# Altium footprint library 28Pins_Project_V1I1.PcbLib: 27 footprints (part 1 of 2)
Each footprint in its own frame and in the unit in brackets; x right, y up, seen from the top. Pads: shape width x height; smd on the part's side, far side on the other; paste and mask are expansions set on the pad; w line width, h text height; cw(c..) or ccw(c..) is an arc to the next point about the centre after c.
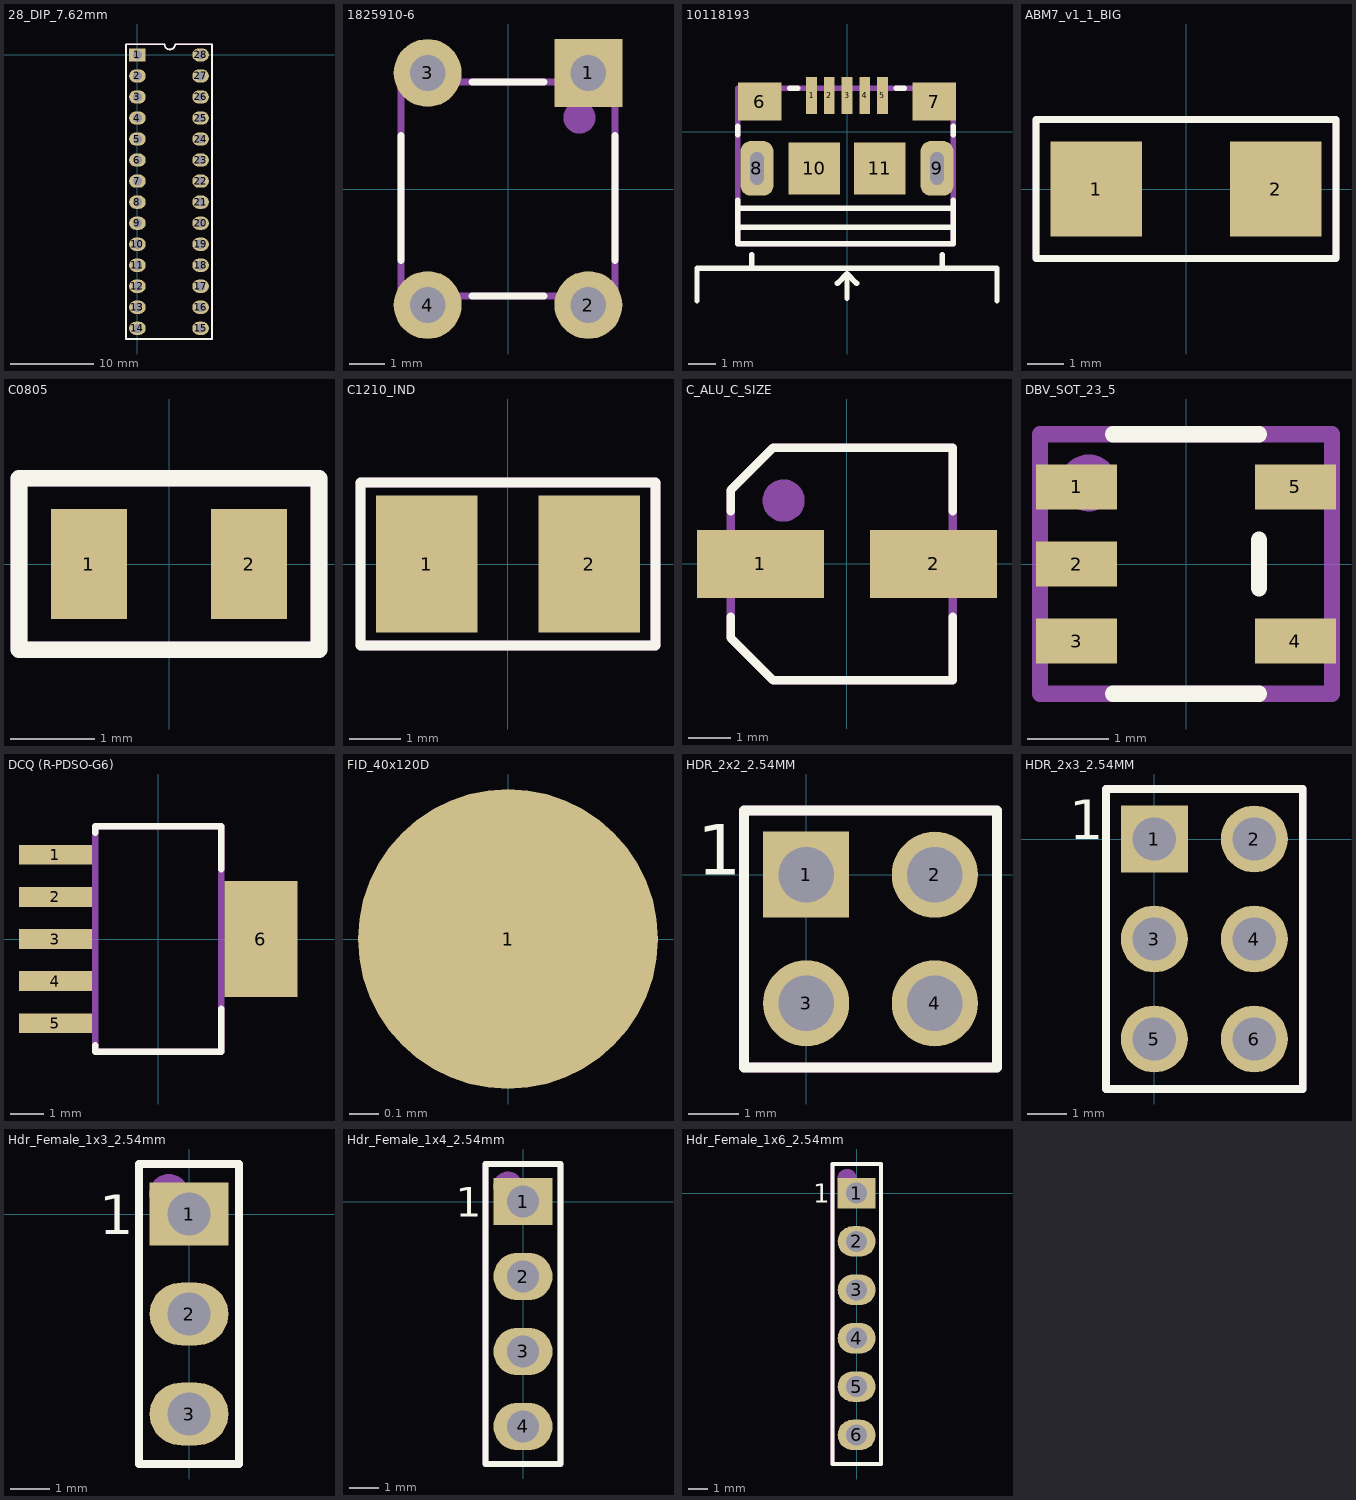
[diagram p0: the footprints below, top view; thin cyan lines are the x and y axes]

## 28_DIP_7.62mm [mm]
pads (28):
  rect 2x1.6 hole 1.1: 1(0,0)
  oval 2x1.6 hole 1.1: 2(0,-2.54) 3(0,-5.08) 4(0,-7.62) 5(0,-10.16) 6(0,-12.7) 7(0,-15.24) 8(0,-17.78) 9(0,-20.32) 10(0,-22.86) 11(0,-25.4) 12(0,-27.94) 13(0,-30.48) 14(0,-33.02) 15(7.62,-33.02) 16(7.62,-30.48) 17(7.62,-27.94) 18(7.62,-25.4) 19(7.62,-22.86) 20(7.62,-20.32) 21(7.62,-17.78) 22(7.62,-15.24) 23(7.62,-12.7) 24(7.62,-10.16) 25(7.62,-7.62) 26(7.62,-5.08) 27(7.62,-2.54) 28(7.62,0)
Top Overlay:
  lines w0.2: 8.975,1.29 4.545,1.29 cw(c3.91,1.29) 3.275,1.29 -1.39,1.29 -1.39,-34.31 9.01,-34.31 9.01,1.27
Mechanical 29 (Mech29):
  circle w0.5: c0.01,-0.01 r0.25
  lines w0.2: 8.975,1.29 4.545,1.29 cw(c3.91,1.29) 3.275,1.29 -1.39,1.29 -1.39,-34.31 9.01,-34.31 9.01,1.27
  text "'.Designator'" at 5.51,-33.81 h3
3D body "User Library-28 pin dip.step": height 7.55, standoff 1.33, extent -0.127,-34.46 7.747,1.481

## 28_DIP_7.62mm_SOCKET [mm]
3D body "dil_socket.stp": height 4.2, standoff -3.17, extent -1.24,-34.26 8.86,1.24

## 1825910-6 [mm]
pads (4):
  rect 1.9x1.9 hole 1: 1(2.25,3.25)
  round 1.9 hole 1: 2(2.25,-3.25) 3(-2.25,3.25) 4(-2.25,-3.25)
Top Overlay:
  lines w0.2: -3,-2 -3,1.5 ; -1,-3 1,-3 ; -1,3 1,3 ; 3,-2 3,1.5
Mechanical 29 (Mech29):
  circle w0.5: c2,2 r0.2
  lines w0.2: -3,-3 -3,3 3,3 3,-3 -3,-3
3D body "User Library-FSM4JLH(1825910-5).step": height 5.01, standoff -3.5, extent -2.995,-3.898 2.995,3.9

## 10118193 [mm]
pads (11):
  rect 0.4x1.35 smd mask+0.05: 1(-1.3,1.338) 2(-0.65,1.338) 3(0,1.338) 4(0.65,1.338) 5(1.3,1.338)
  rect 1.6x1.4 smd: 6(-3.2,1.112) 7(3.2,1.112)
  rrect60% 1.2x2 hole 0.5 slot 1.2 at 90 deg: 8(-3.3,-1.338) 9(3.3,-1.338)
  rect 1.9x1.9 smd: 10(-1.2,-1.338) 11(1.2,-1.338)
Top Overlay:
  lines w0.2: -5.5,-6.2 -5.5,-5 5.5,-5 5.5,-6.2 ; -4,-3.5 3.9,-3.5 ; -4,-2.8 3.9,-2.8 ; -4,-2.5 -4,-4.1 3.9,-4.1 3.9,-2.5 ; -4,-0.1 -4,0.2 ; -3.5,-4.9 -3.5,-4.5 ; -2.1,1.6 -1.8,1.6 ; -0.35,-5.55 0,-5.2 ; 0,-6.1 0,-5.2 ; 0,-5 0.1,-5 ; 0.35,-5.55 0,-5.2 ; 1.8,1.6 2.1,1.6 ; 3.5,-5 3.5,-4.5 ; 3.9,-0.1 3.9,0.2
Mechanical 29 (Mech29):
  lines w0.2: -4,-4.1 -4,1.6 3.9,1.6 3.9,-4.1 -4,-4.1
  text "'.Designator'" at -2.4,-0.7 h1.5
3D body "10118193-0001lfc.stp": height 2.87, standoff -0.73, extent -3.928,-4.123 3.928,1.538

## ABM7_v1_1_BIG [mm]
pads (2):
  rect 2.5x2.6 smd: 1(-2.45,0) 2(2.45,0)
Top Overlay:
  lines w0.2: -4.1,-1.9 4.1,-1.9 4.1,1.9 -4.1,1.9 -4.1,-1.9
Mechanical 29 (Mech29):
  lines w0.2: -4.1,-1.9 -4.1,1.9 4.1,1.9 4.1,-1.9 -4.1,-1.9
  text "'.Designator'" at -1.8,-0.6 h1.52
3D body "ABM7.STEP": height 1.41, standoff 0.01, extent -2.997,-1.753 2.997,1.753

## C0805 [mm]
pads (2):
  rect 0.9x1.3 smd: 1(-0.95,0) 2(0.95,0)
Top Overlay:
  lines w0.2: -1.778,-1.016 -1.778,1.016 1.778,1.016 1.778,-1.016 -1.778,-1.016
Mechanical 29 (Mech29):
  lines w0.2: -1.778,-1.016 1.778,-1.016 1.778,1.016 -1.778,1.016 -1.778,-1.016
  text "'.Designator'" at -1.27,-0.254 h0.6
3D body "CAPC2012X145N EIA 0805.step": height 1.46, standoff 0.01, extent -1,-0.6 1,0.6

## C1210_IND [mm]
pads (2):
  rect 2x2.7 smd: 1(-1.6,0) 2(1.6,0)
Top Overlay:
  lines w0.2: -2.9,-1.6 2.9,-1.6 2.9,1.6 -2.9,1.6 -2.9,-1.6
Mechanical 29 (Mech29):
  lines w0.2: -2.9,-1.6 -2.9,1.6 2.9,1.6 2.9,-1.6 -2.9,-1.6
  text "'.Designator'" at -2.2,-0.4 h1
3D body: height 2.7, standoff -0.01, extent -1.6,-1.25 -1.3,1.25
3D body: height 2.7, standoff -0.01, extent 1.3,-1.25 1.6,1.25
3D body: height 2.7, standoff -0.01, extent -1.3,-1.25 1.3,1.25

## C_ALU_C_SIZE [mm]
pads (2):
  rect 3x1.6 smd: 1(-2.05,0) 2(2.05,0)
Top Overlay:
  lines w0.2: -2.75,-1.25 -2.75,-1.75 -1.75,-2.75 2.5,-2.75 2.5,-1.25 ; -2.75,1.25 -2.75,1.75 -1.75,2.75 2.5,2.75 2.5,1.25
Mechanical 29 (Mech29):
  circle w0.5: c-1.5,1.5 r0.25
  lines w0.2: -2.75,-1.75 -1.75,-2.75 2.5,-2.75 2.5,2.75 -1.75,2.75 -2.75,1.75 -2.75,-1.75
  text "'.Designator'" at -1.75,-1 h1.3
3D body "Capacitor size C.step": height 5.42, standoff 0.01, extent -2.95,-2.65 2.95,2.65

## DBV_SOT_23_5 [mm]
pads (5):
  rect 1x0.55 smd: 1(-1.35,0.95) 2(-1.35,0) 3(-1.35,-0.95) 4(1.35,-0.95) 5(1.35,0.95)
Top Overlay:
  lines w0.2: -0.9,-1.6 0.9,-1.6 ; -0.9,1.6 0.9,1.6 ; 0.9,-0.3 0.9,0.3
Mechanical 29 (Mech29):
  circle w0.5: c-1.2,1 r0.1
  lines w0.2: -1.8,-1.6 -1.8,1.6 1.8,1.6 1.8,-1.6 -1.8,-1.6
  text "'.Designator'" at -1.2,-0.3 h0.6
3D body "User Library-TPS79333DBVR.step": height 1.6, standoff -0.02, extent -1.514,-1.525 1.513,1.525

## DCQ (R-PDSO-G6) [mm]
pads (6):
  rect 2.2x0.6 smd: 1(-3.1,2.54) 2(-3.1,1.27) 3(-3.1,0) 4(-3.1,-1.27) 5(-3.1,-2.54)
  rect 2.2x3.5 smd: 6(3.1,0)
Top Overlay:
  lines w0.2: -1.9,-3.2 -1.9,-3.4 1.9,-3.4 1.9,-2.1 ; -1.9,3.2 -1.9,3.4 1.9,3.4 1.9,2.1
Mechanical 29 (Mech29):
  lines w0.2: -1.9,-3.4 -1.9,3.4 1.9,3.4 1.9,-3.4 -1.9,-3.4
  text "'.Designator'" at -1.6,-0.4 h1.5
3D body "User Library-TPS73701DCQ.step": height 1.79, standoff -0.01, extent -3.63,-3.275 3.63,3.275

## FID_40x120D [mil]
pads (1):
  round 40 smd paste-40 mask+40: 1(0,0)

## HDR_2x2_2.54MM [mm]
pads (4):
  rect 1.7x1.7 hole 1.1: 1(0,0)
  round 1.7 hole 1.1: 2(2.54,0) 3(0,-2.54) 4(2.54,-2.54)
Top Overlay:
  lines w0.2: -1.23,-3.81 -1.23,1.27 3.77,1.27 3.77,-3.81 -1.23,-3.81
  text "1" at -2.159,0 h1
Mechanical 29 (Mech29):
  circle w0.508: c-0.254,0.254 r0.254
  lines w0.2: -1.23,-3.81 3.77,-3.81 3.77,1.27 -1.23,1.27 -1.23,-3.81
  text "'.Designator'" at 2.286,-3.048 h1.52
3D body "961204-6404-XX.stp": height 8.03, standoff -3.27, extent -1.19,-3.77 3.81,1.31

## HDR_2x3_2.54MM [mm]
pads (6):
  rect 1.7x1.7 hole 1.1: 1(0,0)
  round 1.7 hole 1.1: 2(2.54,0) 3(0,-2.54) 4(2.54,-2.54) 5(0,-5.08) 6(2.54,-5.08)
Top Overlay:
  lines w0.2: -1.23,-6.35 -1.23,1.27 3.77,1.27 3.77,-6.35 -1.23,-6.35
  text "1" at -2.159,0 h1
Mechanical 29 (Mech29):
  circle w0.508: c-0.254,0.254 r0.254
  lines w0.2: -1.23,-6.35 3.77,-6.35 3.77,1.27 -1.23,1.27 -1.23,-6.35
  text "'.Designator'" at 2.159,-5.207 h1.52
3D body "961206-6404-XX.stp": height 8.03, standoff -3.27, extent -1.23,-6.35 3.77,1.27

## Hdr_Female_1x3_2.54mm [mm]
pads (3):
  rect 2x1.6 hole 1.1: 1(0,0)
  oval 2x1.6 hole 1.1: 2(0,-2.54) 3(0,-5.08)
Top Overlay:
  lines w0.2: -1.27,-6.35 1.27,-6.35 1.27,1.27 -1.27,1.27 -1.27,-6.35
  text "1" at -2.286,-0.508 h1
Mechanical 29 (Mech29):
  circle w0.5: c-0.508,0.508 r0.254
  lines w0.2: -1.27,-6.35 -1.27,1.27 1.27,1.27 1.27,-6.35 -1.27,-6.35
  text "'.Designator'" at 0.762,-4.826 h1.52
3D body "HDR_1x3_White.stp": height 8.39, standoff -3.11, extent -1.205,-6.15 1.205,1.07

## Hdr_Female_1x4_2.54mm [mm]
pads (4):
  rect 2x1.6 hole 1.1: 1(0,0)
  oval 2x1.6 hole 1.1: 2(0,-2.54) 3(0,-5.08) 4(0,-7.62)
Top Overlay:
  lines w0.2: -1.27,-8.89 1.27,-8.89 1.27,1.27 -1.27,1.27 -1.27,-8.89
  text "1" at -2.286,-0.508 h1
Mechanical 29 (Mech29):
  circle w0.5: c-0.508,0.508 r0.254
  lines w0.2: -1.27,-8.89 -1.27,1.27 1.27,1.27 1.27,-8.89 -1.27,-8.89
  text "'.Designator'" at 0.762,-8.128 h1.52
3D body "HDR_1x4_White.stp": height 8.39, standoff -3.11, extent -1.205,-8.69 1.205,1.07

## Hdr_Female_1x6_2.54mm [mm]
pads (6):
  rect 2x1.6 hole 1.1: 1(0,0)
  oval 2x1.6 hole 1.1: 2(0,-2.54) 3(0,-5.08) 4(0,-7.62) 5(0,-10.16) 6(0,-12.7)
Top Overlay:
  lines w0.2: -1.27,-14.224 -1.27,1.524 1.27,1.524 1.27,-14.224 -1.27,-14.224
  text "1" at -2.286,-0.508 h1
Mechanical 29 (Mech29):
  circle w0.5: c-0.508,0.762 r0.254
  lines w0.2: -1.27,-14.224 1.27,-14.224 1.27,1.524 -1.27,1.524 -1.27,-14.224
  text "'.Designator'" at 0.762,-13.716 h1.52
3D body "m20-7820646_asm.stp": height 8.31, standoff -3.19, extent -1.25,-14.17 1.25,1.47